# Altium footprint library Connect.PcbLib: 69 footprints (part 5 of 5)
Each footprint in its own frame and in the unit in brackets; x right, y up, seen from the top. Pads: shape width x height; smd on the part's side, far side on the other; paste and mask are expansions set on the pad; w line width, h text height; cw(c..) or ccw(c..) is an arc to the next point about the centre after c.
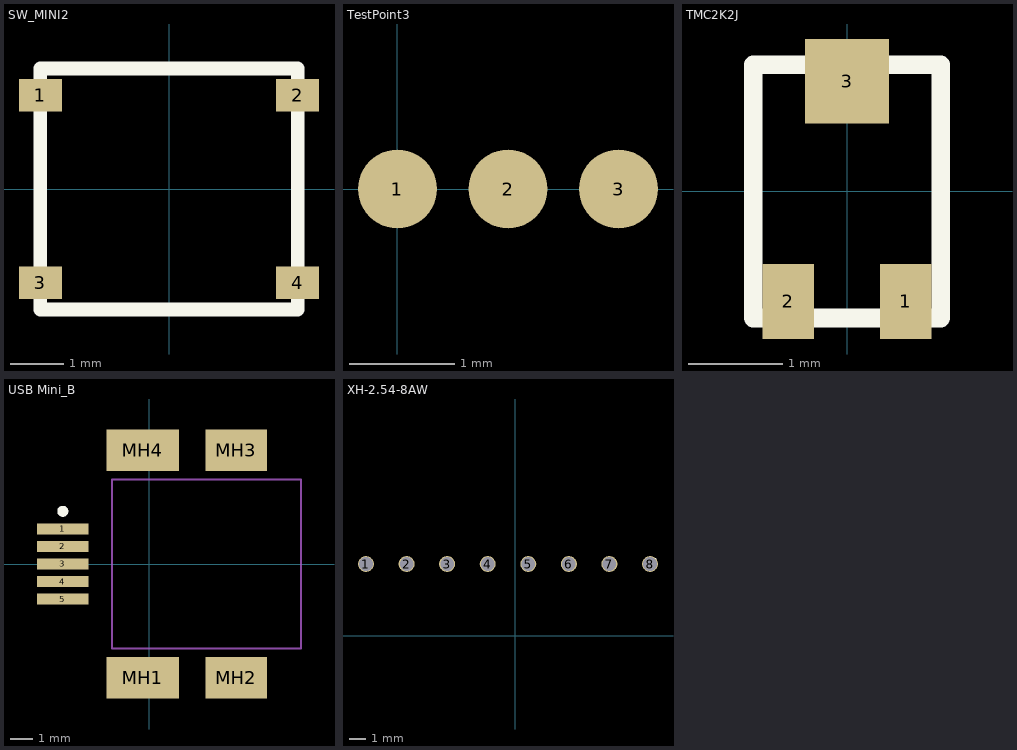
[diagram p4: the footprints below, top view; thin cyan lines are the x and y axes]

## SW_MINI2 [mm]
pads (4):
  rect 0.8x0.6 smd: 1(-2.4,1.75) 2(2.4,1.75) 3(-2.4,-1.75) 4(2.4,-1.75)
Top Overlay:
  lines w0.254: -2.4,-2.25 -2.4,2.25 2.4,2.25 2.4,-2.25 -2.4,-2.25
3D body: height 0.5, standoff 0, extent -2.4,-2.28 2.4,2.25

## TestPoint3 [mm]
pads (3):
  round 0.75 smd: 1(0,0) 2(1.05,0) 3(2.1,0)

## TMC2K2J [mm]
pads (3):
  rect 0.55x0.8 smd: 1(0.625,-1.175) 2(-0.625,-1.175)
  rect 0.9x0.9 smd: 3(0,1.175)
Top Overlay:
  lines w0.2: -1,-1.35 1,-1.35 1,1.35 -1,1.35 -1,-1.35
3D body: height 0.9, standoff 0, extent -0.999,-1.352 1.009,1.336

## USB Mini_B [mm] "Connector; USB Mini-B, Sinking Type, SM; 5 Position; Right Angle"
pads (9):
  rect 2.35x0.5 smd paste+0.038 mask+0.038: 1(-3.946,1.6) 2(-3.946,0.8) 3(-3.946,0) 4(-3.946,-0.8) 5(-3.946,-1.6)
  rect 3.302x1.905 smd paste+0.038 mask+0.038: MH1(-0.304,-5.175) MH4(-0.304,5.175)
  rect 2.794x1.905 smd paste+0.038 mask+0.038: MH2(3.946,-5.175) MH3(3.946,5.175)
Top Overlay:
  circle w0.25: c-3.946,2.4 r0.125
Mechanical 13:
  lines w0.1: -1.704,-3.85 6.897,-3.85 6.897,3.85 -1.704,3.85 -1.704,-3.85
3D body: height 1.3, standoff -2.03, extent -1.788,-3.198 6.361,3.224
3D body: height 0.35, standoff 0, extent -0.857,3.051 0.439,5.373
3D body: height 0.35, standoff 0, extent 3.386,-5.55 4.682,-3.249
3D body: height 0.35, standoff 0, extent 3.462,3.101 4.758,5.449
3D body: height 0.35, standoff 0, extent -4.362,-1.804 -1.693,-1.396
3D body: height 0.35, standoff 0, extent -4.413,-0.991 -1.744,-0.583
3D body: height 0.35, standoff 0, extent -4.388,-0.179 -1.72,0.229
3D body: height 0.33, standoff 0, extent -4.388,1.396 -1.72,1.804
3D body: height 0.38, standoff 0, extent -0.712,-5.434 0.584,-3.172
3D body: height 1.4, standoff 0, extent -0.836,-2.945 6.589,2.848
3D body: height 0.35, standoff 0, extent -4.413,0.608 -1.744,1.017

## XH-2.54-8AW [mm]
pads (8):
  round 1 hole 0.85: 1(-9.359,4.496) 2(-6.819,4.496) 3(-4.279,4.496) 4(-1.739,4.496) 5(0.801,4.496) 6(3.341,4.496) 7(5.881,4.496) 8(8.421,4.496)
Top Overlay:
  lines w0.16: 8.732,4.784 8.733,4.785
3D body: height 3.93, standoff 3.3, extent -7.137,-2.281 -6.506,4.784
3D body: height 3.93, standoff -3.4, extent -9.672,4.209 -9.046,4.784
3D body: height 5.8, standoff 5.38, extent 4.256,2.111 7.628,4.496
3D body: height 5.8, standoff 5.38, extent -8.566,2.111 -5.363,4.496
3D body: height 5.8, standoff 5.38, extent 7.628,-5.504 10.781,4.496
3D body: height 5.8, standoff 0, extent -11.719,4.203 10.781,4.496
3D body: height 5.8, standoff 0, extent 10.439,-5.504 10.781,4.496
3D body: height 5.8, standoff 0, extent -11.719,-5.504 -11.365,4.496
3D body: height 3.93, standoff -3.4, extent 8.107,4.21 8.733,4.785
3D body: height 3.93, standoff -3.4, extent 5.567,4.21 6.193,4.785
3D body: height 3.93, standoff -3.4, extent 3.027,4.21 3.653,4.785
3D body: height 3.93, standoff -3.4, extent 0.487,4.21 1.113,4.785
3D body: height 3.93, standoff -3.4, extent -2.053,4.21 -1.427,4.785
3D body: height 3.93, standoff -3.4, extent -4.593,4.21 -3.967,4.785
3D body: height 3.93, standoff -3.4, extent -7.133,4.21 -6.507,4.785
3D body: height 0.5, standoff 0, extent -11.719,-5.504 10.781,4.496
3D body: height 5.8, standoff 5.38, extent -11.719,-5.504 -8.566,4.496
3D body: height 5.8, standoff 5.38, extent -5.408,-5.519 4.477,4.49
3D body: height 3.93, standoff 3.3, extent -9.677,-2.28 -9.046,4.784
3D body: height 3.93, standoff 3.3, extent -4.596,-2.28 -3.965,4.785
3D body: height 3.93, standoff 3.3, extent -2.056,-2.28 -1.425,4.785
3D body: height 3.93, standoff 3.3, extent 0.484,-2.28 1.115,4.785
3D body: height 3.93, standoff 3.3, extent 3.022,-2.282 3.653,4.783
3D body: height 3.93, standoff 3.3, extent 5.562,-2.282 6.193,4.783
3D body: height 3.93, standoff 3.3, extent 8.102,-2.282 8.733,4.783